# EAGLE library part AT32UC3B1 (library atmel_at32uc3)
The AT32UC3B is a complete System-On-Chip microcontroller based on the AVR32 UC RISC processor running at frequencies up to 60 MHz. AVR32 UC is a high-performance 32-bit RISC microprocessor core, designed for cost-sensitive embedded applications, with particular empha- sis on low power consumption, high code density and high performance.
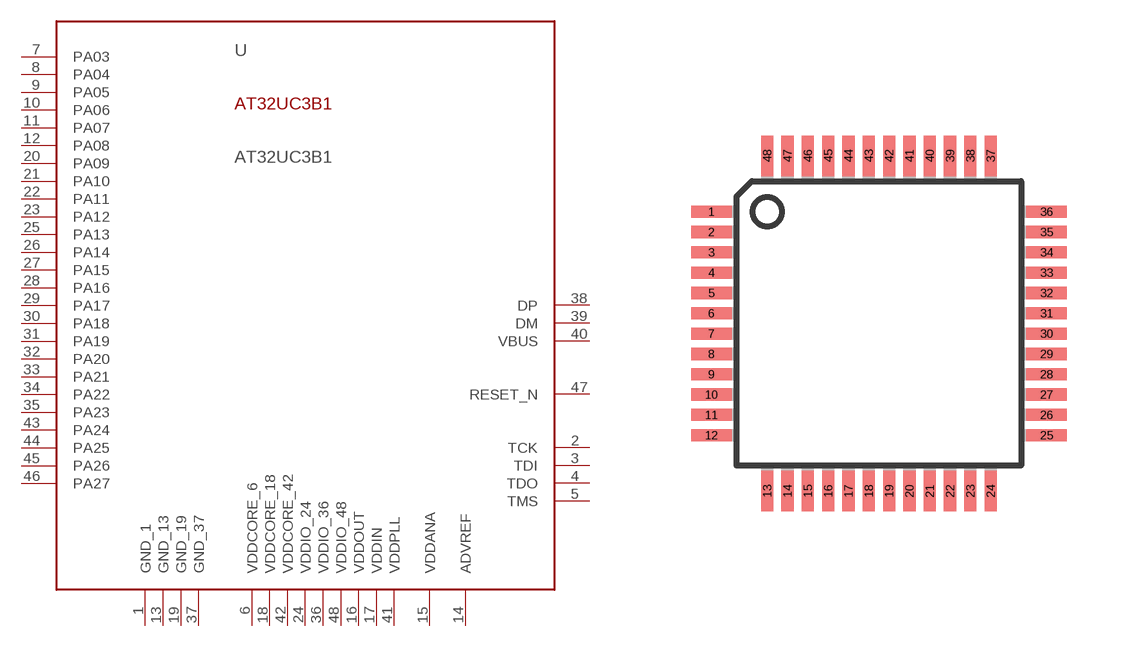
[diagram p3: symbol with the pads of TQFP48; footprint TQFP48]

Designator prefix -

## AT32UC3B1A  [TQFP48]
1  GND_1  pwr
2  TCK  in
3  TDI  in
4  TDO  out
5  TMS  in
6  VDDCORE_6  pwr
7  PA03
8  PA04
9  PA05
10  PA06
11  PA07
12  PA08
13  GND_13  pwr
14  ADVREF  pwr
15  VDDANA  pwr
16  VDDOUT  pwr
17  VDDIN  pwr
18  VDDCORE_18  pwr
19  GND_19  pwr
20  PA09
21  PA10
22  PA11
23  PA12
24  VDDIO_24  pwr
25  PA13
26  PA14
27  PA15
28  PA16
29  PA17
30  PA18
31  PA19
32  PA20
33  PA21
34  PA22
35  PA23
36  VDDIO_36  pwr
37  GND_37  pwr
38  DP
39  DM
40  VBUS  pwr
41  VDDPLL  pwr
42  VDDCORE_42  pwr
43  PA24
44  PA25
45  PA26
46  PA27
47  RESET_N  in
48  VDDIO_48  pwr

## Footprint TQFP48 (pad centres in mm)
Thin Plasic Quad Flat Package
smd 1.016 x 0.305: 1 -4.191,2.794; 2 -4.191,2.286; 3 -4.191,1.778; 4 -4.191,1.27; 5 -4.191,0.762; 6 -4.191,0.254; 7 -4.191,-0.254; 8 -4.191,-0.762; 9 -4.191,-1.27; 10 -4.191,-1.778; 11 -4.191,-2.286; 12 -4.191,-2.794; 25 4.191,-2.794; 26 4.191,-2.286; 27 4.191,-1.778; 28 4.191,-1.27; 29 4.191,-0.762; 30 4.191,-0.254; 31 4.191,0.254; 32 4.191,0.762; 33 4.191,1.27; 34 4.191,1.778; 35 4.191,2.286; 36 4.191,2.794
smd 0.305 x 1.016: 13 -2.794,-4.191; 14 -2.286,-4.191; 15 -1.778,-4.191; 16 -1.27,-4.191; 17 -0.762,-4.191; 18 -0.254,-4.191; 19 0.254,-4.191; 20 0.762,-4.191; 21 1.27,-4.191; 22 1.778,-4.191; 23 2.286,-4.191; 24 2.794,-4.191; 37 2.794,4.191; 38 2.286,4.191; 39 1.778,4.191; 40 1.27,4.191; 41 0.762,4.191; 42 0.254,4.191; 43 -0.254,4.191; 44 -0.762,4.191; 45 -1.27,4.191; 46 -1.778,4.191; 47 -2.286,4.191; 48 -2.794,4.191